# Altium footprint library AMS1117.PcbLib: 1 footprints
Each footprint in its own frame and in the unit in brackets; x right, y up, seen from the top. Pads: shape width x height; smd on the part's side, far side on the other; paste and mask are expansions set on the pad; w line width, h text height; cw(c..) or ccw(c..) is an arc to the next point about the centre after c.
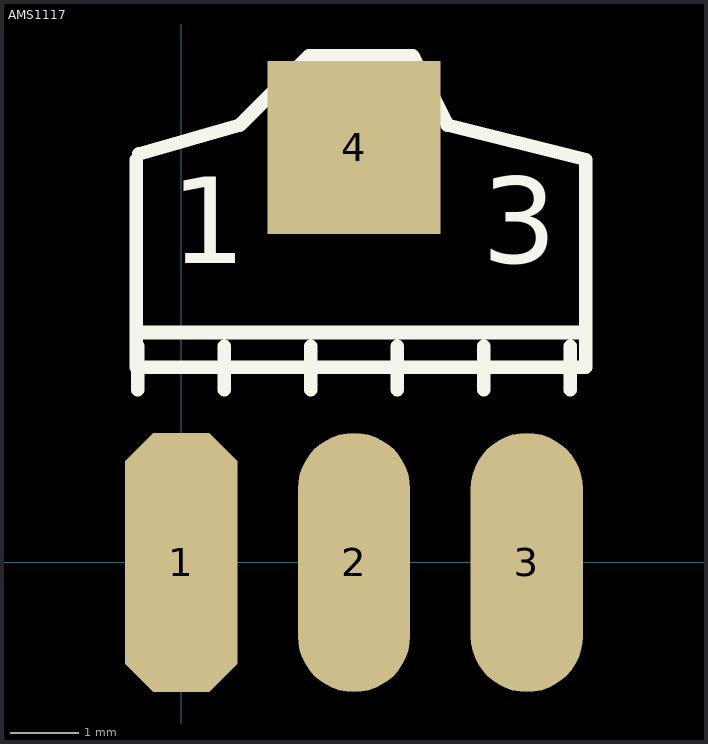
[diagram p0: the footprint, top view; thin cyan lines are the x and y axes]

## AMS1117 [mil]
pads (4):
  oct 65x150 smd: 1(0,0)
  oval 65x150 smd: 2(100,0) 3(200,0)
  rect 100x100 smd: 4(100,240)
Top Overlay:
  lines w7.87: -26,233 -26,133 ; -25,100 -25,125 ; -24.33,236.33 34,253 74,293 134,293 154,253 234,233 234,113 ; 25,100 25,125 ; 75,100 75,125 ; 125,100 125,125 ; 175,100 175,125 ; 225,100 225,125 ; -26,133 -26,113 234,113 ; -26,133 234,133 234,113
  text "1" at -6,173 h50
  text "3" at 174,173 h50